# Altium schematic symbol library MAL214231101E3.SchLib: 1 symbol
Pins are listed as number, name and electrical type; pins without a type are passive.

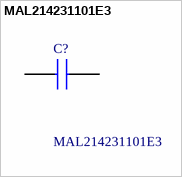
[diagram p0: symbol MAL214231101E3]

## MAL214231101E3
designator C?
Aluminum Electrolytic Capacitors - Radial Leaded 100uF 50V 8x12mm 105 C 2500h; Manufacturer_Name: Vishay; Geometry.Height: 13mm; Mouser Part Number: 594-MAL214231101E3; Mouser Price/Stock: https://www.mouser.co.uk/ProductDetail/Vishay-BC-Components/MAL214231101E3?qs=Ep9Lwju7gVq%252BiOgwdeHCkg%3D%3D; Manufacturer_Part_Number: MAL214231101E3; Datasheet Link: http://www.vishay.com/docs/28402/142rhs.pdf
footprint CAPPRD350W60D850H1300
pins: 1 +, 2 -